# EAGLE library part HM62?S (library con-subd)
SUB-D
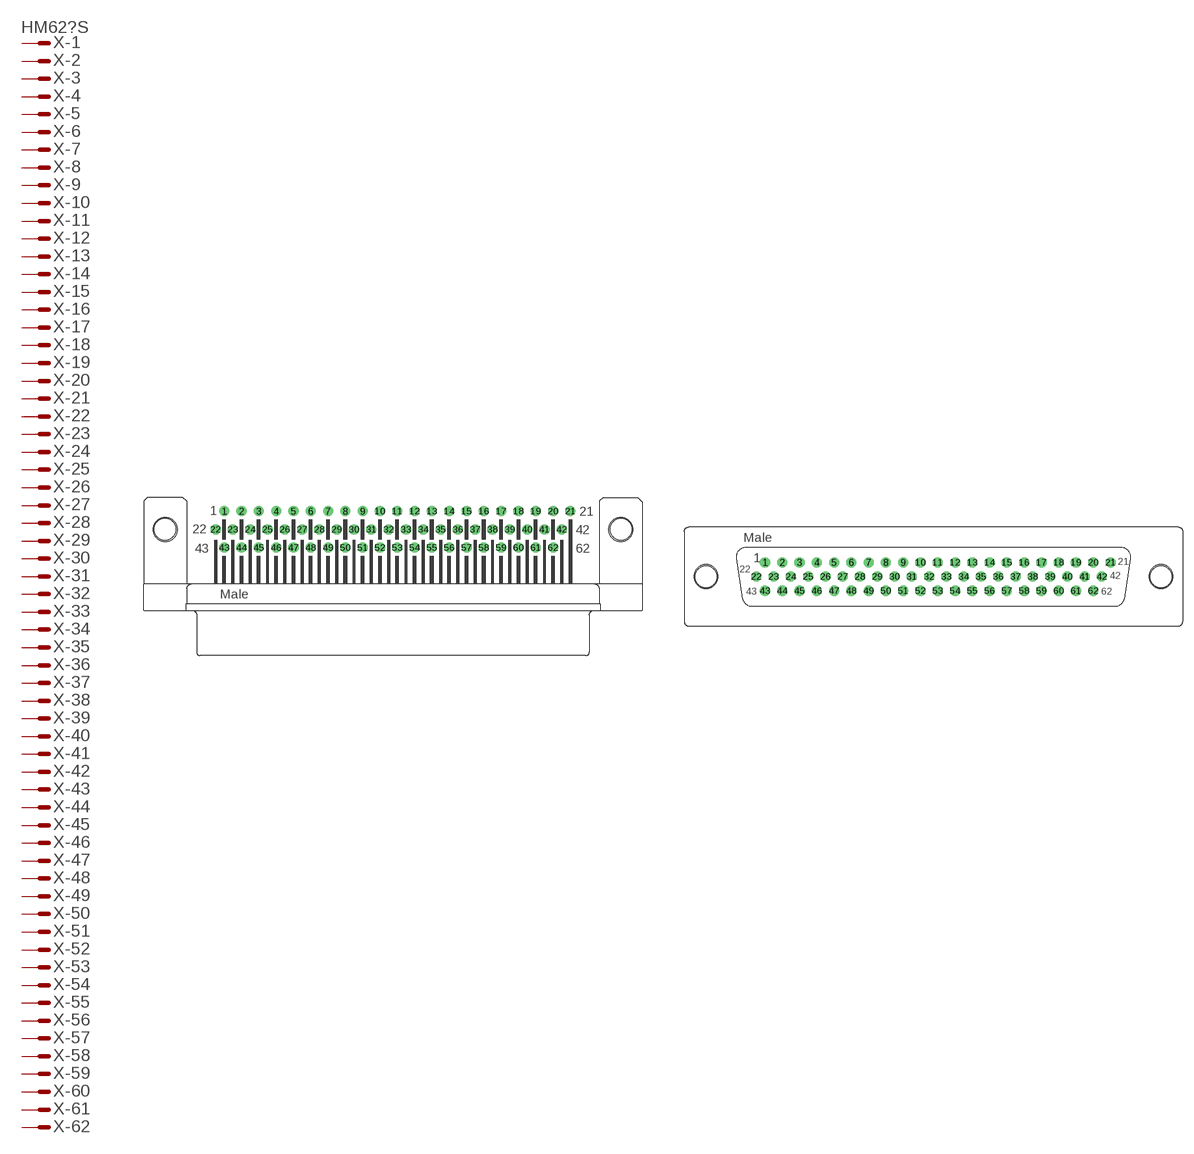
[diagram p40: symbol with the pads of HDM62H; footprints HDM62H, HDM62V]

Designator prefix X; gates -1=MV -2=M -3=M -4=M -5=M -6=M -7=M -8=M -9=M -10=M -11=M -12=M -13=M -14=M -15=M -16=M -17=M -18=M -19=M -20=M -21=M -22=M -23=M -24=M -25=M -26=M -27=M -28=M -29=M -30=M -31=M -32=M -33=M -34=M -35=M -36=M -37=M -38=M -39=M -40=M -41=M -42=M -43=M -44=M -45=M -46=M -47=M -48=M -49=M -50=M -51=M -52=M -53=M -54=M -55=M -56=M -57=M -58=M -59=M -60=M -61=M -62=M

## HM62HS (OC_FARNELL: unknown; OC_NEWARK: unknown)  [HDM62H]
1  -1:M  pas
2  -2:M  pas
3  -3:M  pas
4  -4:M  pas
5  -5:M  pas
6  -6:M  pas
7  -7:M  pas
8  -8:M  pas
9  -9:M  pas
10  -10:M  pas
11  -11:M  pas
12  -12:M  pas
13  -13:M  pas
14  -14:M  pas
15  -15:M  pas
16  -16:M  pas
17  -17:M  pas
18  -18:M  pas
19  -19:M  pas
20  -20:M  pas
21  -21:M  pas
22  -22:M  pas
23  -23:M  pas
24  -24:M  pas
25  -25:M  pas
26  -26:M  pas
27  -27:M  pas
28  -28:M  pas
29  -29:M  pas
30  -30:M  pas
31  -31:M  pas
32  -32:M  pas
33  -33:M  pas
34  -34:M  pas
35  -35:M  pas
36  -36:M  pas
37  -37:M  pas
38  -38:M  pas
39  -39:M  pas
40  -40:M  pas
41  -41:M  pas
42  -42:M  pas
43  -43:M  pas
44  -44:M  pas
45  -45:M  pas
46  -46:M  pas
47  -47:M  pas
48  -48:M  pas
49  -49:M  pas
50  -50:M  pas
51  -51:M  pas
52  -52:M  pas
53  -53:M  pas
54  -54:M  pas
55  -55:M  pas
56  -56:M  pas
57  -57:M  pas
58  -58:M  pas
59  -59:M  pas
60  -60:M  pas
61  -61:M  pas
62  -62:M  pas

## HM62VS (OC_FARNELL: unknown; OC_NEWARK: unknown)  [HDM62V]
Pads as for HDM62H

## Footprint HDM62H (pad centres in mm)
SUB-D
drill 0.9: 1 -23.527,2.54; 2 -21.114,2.54; 3 -18.701,2.54; 4 -16.288,2.54; 5 -13.875,2.54; 6 -11.462,2.54; 7 -9.049,2.54; 8 -6.636,2.54; 9 -4.223,2.54; 10 -1.81,2.54; 11 0.603,2.54; 12 3.016,2.54; 13 5.429,2.54; 14 7.842,2.54; 15 10.255,2.54; 16 12.668,2.54; 17 15.081,2.54; 18 17.494,2.54; 19 19.907,2.54; 20 22.32,2.54; 21 24.733,2.54; 22 -24.734,0; 23 -22.321,0; 24 -19.908,0; 25 -17.495,0; 26 -15.082,0; 27 -12.669,0; 28 -10.256,0; 29 -7.843,0; 30 -5.43,0; 31 -3.017,0; 32 -0.604,0; 33 1.809,0; 34 4.222,0; 35 6.635,0; 36 9.048,0; 37 11.461,0; 38 13.874,0; 39 16.287,0; 40 18.7,0; 41 21.113,0; 42 23.526,0; 43 -23.527,-2.54; 44 -21.114,-2.54; 45 -18.701,-2.54; 46 -16.288,-2.54; 47 -13.875,-2.54; 48 -11.462,-2.54; 49 -9.049,-2.54; 50 -6.636,-2.54; 51 -4.223,-2.54; 52 -1.81,-2.54; 53 0.603,-2.54; 54 3.016,-2.54; 55 5.429,-2.54; 56 7.842,-2.54; 57 10.255,-2.54; 58 12.668,-2.54; 59 15.081,-2.54; 60 17.494,-2.54; 61 19.907,-2.54; 62 22.32,-2.54
hole 3 at -31.75,0
hole 3 at 31.75,0

## Footprint HDM62V (pad centres in mm)
SUB-D
drill 0.9: 1 -23.532,1.98; 2 -21.119,1.98; 3 -18.706,1.98; 4 -16.293,1.98; 5 -13.88,1.98; 6 -11.467,1.98; 7 -9.054,1.98; 8 -6.641,1.98; 9 -4.228,1.98; 10 -1.815,1.98; 11 0.598,1.98; 12 3.011,1.98; 13 5.424,1.98; 14 7.837,1.98; 15 10.25,1.98; 16 12.663,1.98; 17 15.076,1.98; 18 17.489,1.98; 19 19.902,1.98; 20 22.315,1.98; 21 24.728,1.98; 22 -24.739,0; 23 -22.325,0; 24 -19.912,0; 25 -17.499,0; 26 -15.086,0; 27 -12.673,0; 28 -10.26,0; 29 -7.847,0; 30 -5.434,0; 31 -3.021,0; 32 -0.608,0; 33 1.805,0; 34 4.218,0; 35 6.631,0; 36 9.044,0; 37 11.457,0; 38 13.87,0; 39 16.283,0; 40 18.696,0; 41 21.109,0; 42 23.522,0; 43 -23.532,-1.98; 44 -21.119,-1.98; 45 -18.706,-1.98; 46 -16.293,-1.98; 47 -13.88,-1.98; 48 -11.467,-1.98; 49 -9.054,-1.98; 50 -6.641,-1.98; 51 -4.228,-1.98; 52 -1.815,-1.98; 53 0.598,-1.98; 54 3.011,-1.98; 55 5.424,-1.98; 56 7.837,-1.98; 57 10.25,-1.98; 58 12.663,-1.98; 59 15.076,-1.98; 60 17.489,-1.98; 61 19.902,-1.98; 62 22.315,-1.98
hole 3 at -31.75,0
hole 3 at 31.75,0